# Altium footprint library capacitor.PcbLib: 22 footprints (part 1 of 2)
Each footprint in its own frame and in the unit in brackets; x right, y up, seen from the top. Pads: shape width x height; smd on the part's side, far side on the other; paste and mask are expansions set on the pad; w line width, h text height; cw(c..) or ccw(c..) is an arc to the next point about the centre after c.
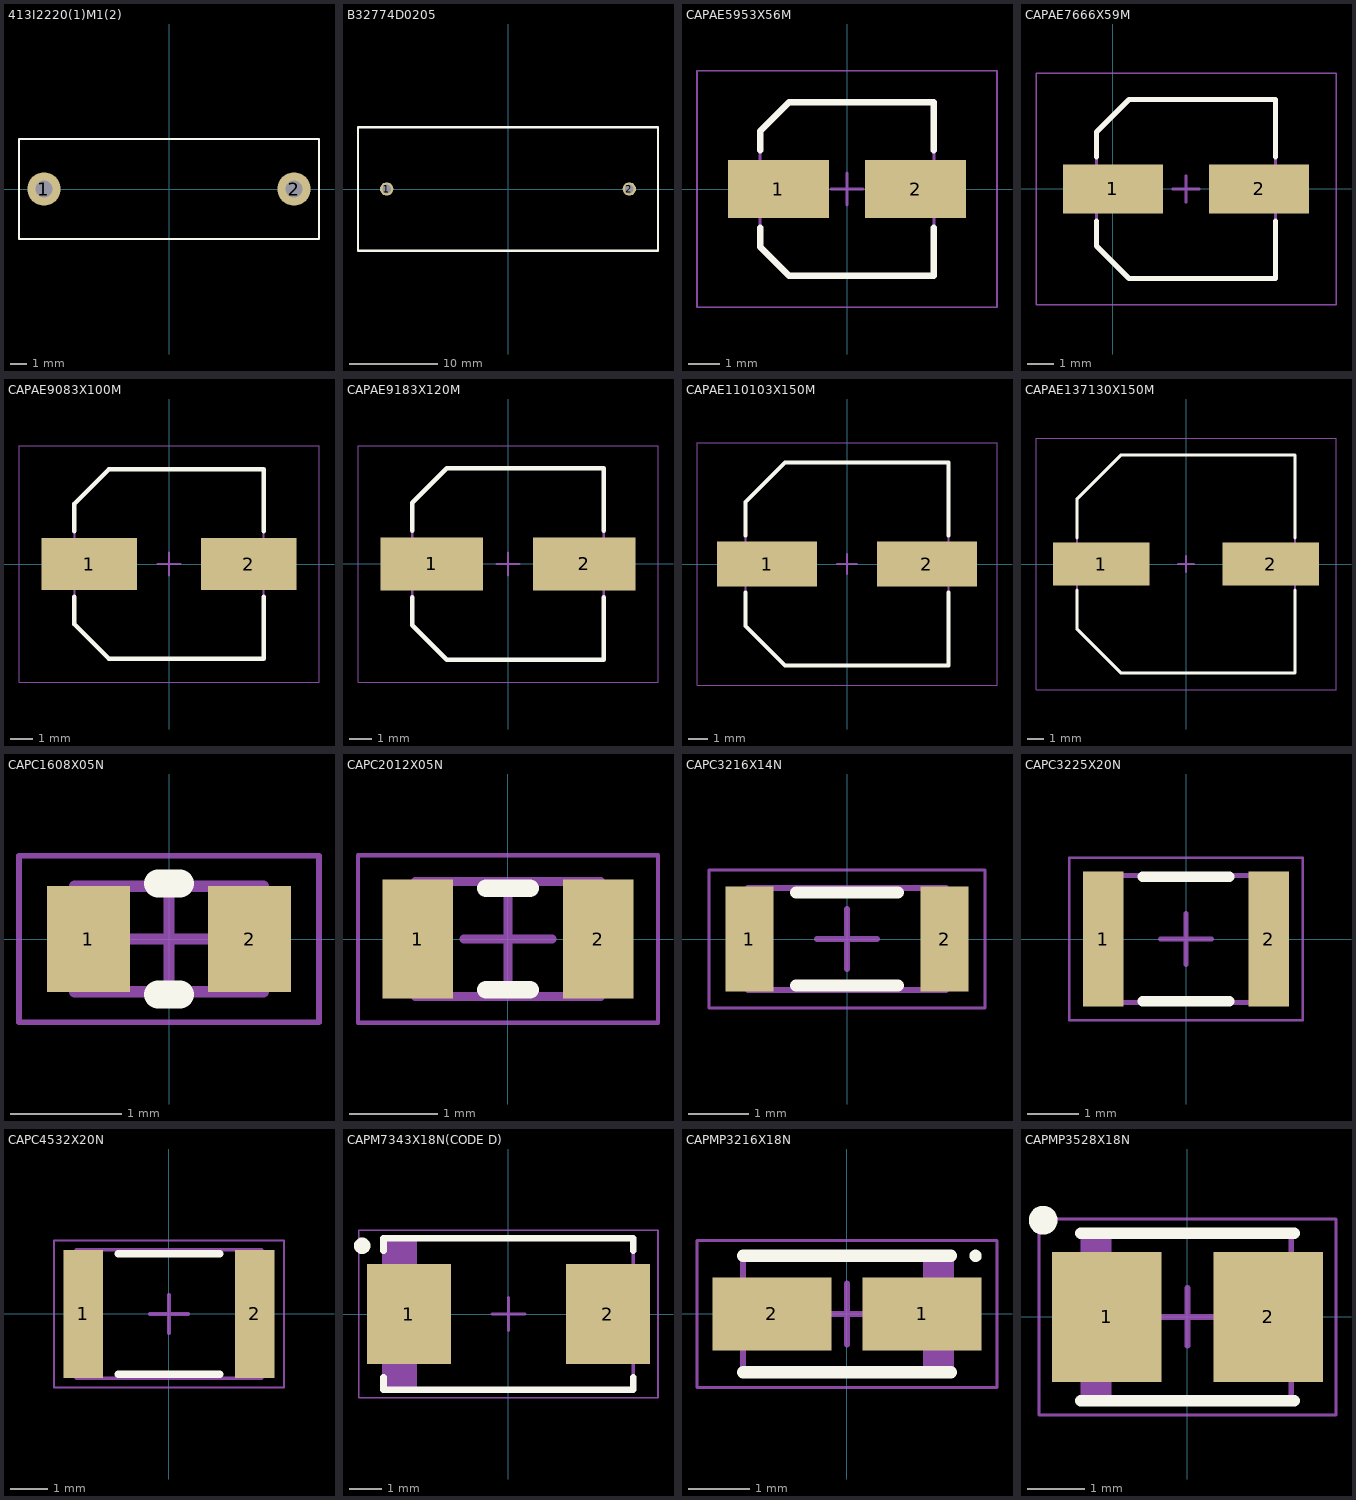
[diagram p0: the footprints below, top view; thin cyan lines are the x and y axes]

## 413I2220(1)M1(2) [mm]
pads (2):
  round 2 hole 1: 1(-7.5,0) 2(7.5,0)
Top Overlay:
  lines w0.1: -9,-3 9,-3 9,3 -9,3 -9,-3
3D body "R413I222000M1M.step": height 12.2, standoff -5.9, extent -9.1,-3.105 9.2,3.1

## B32774D0205 [mm]
height 21.5
pads (2):
  round 1.524 hole 1: 1(-13.75,0) 2(13.75,0)
Top Overlay:
  lines w0.254: -17,-7 -17,7 17,7 17,-7 -17,-7
3D body "B32774D0205.stp": height 21.5, standoff -6.1, extent -15.8,-6.25 15.7,6.25

## CAPAE5953X56M [mm] "Aluminum Electrolytic Capacitor, Body 5.30x5.30x5.60mm, IPC Low Density"
height 5.6
pads (2):
  rect 3.2x1.85 smd: 1(-2.175,0) 2(2.175,0)
Top Overlay:
  lines w0.2: -2.75,-1.225 -2.75,-1.837 -1.837,-2.75 2.75,-2.75 2.75,-1.225 ; -2.75,1.225 -2.75,1.837 -1.837,2.75 2.75,2.75 2.75,1.225
Mechanical 13:
  lines w0.1: -2.75,-1.837 -2.75,1.837 -1.837,2.75 2.75,2.75 2.75,-2.75 -1.837,-2.75 -2.75,-1.837
Mechanical 15:
  lines w0.05: -4.75,-3.75 4.75,-3.75 4.75,3.75 -4.75,3.75 -4.75,-3.75
  lines w0.1: -0.5,0 0.5,0 ; 0,-0.5 0,0.5
3D body "CAPAE5953X56M.step": height 5.6, standoff 0, extent -2.95,-2.75 2.95,2.75

## CAPAE7666X59M [mm] "Aluminum Electrolytic Capacitor, Body 6.60x6.60x5.90mm, IPC Low Density"
height 5.9
pads (2):
  rect 3.8x1.85 smd: 1(0,0) 2(5.55,0)
Top Overlay:
  lines w0.2: -0.625,-1.225 -0.625,-2.163 0.613,-3.4 6.175,-3.4 6.175,-1.225 ; -0.625,1.225 -0.625,2.163 0.613,3.4 6.175,3.4 6.175,1.225
Mechanical 13:
  lines w0.1: -0.625,-2.163 -0.625,2.163 0.613,3.4 6.175,3.4 6.175,-3.4 0.613,-3.4 -0.625,-2.163
Mechanical 15:
  lines w0.05: -2.925,-4.4 8.475,-4.4 8.475,4.4 -2.925,4.4 -2.925,-4.4
  lines w0.1: 2.275,0 3.275,0 ; 2.775,-0.5 2.775,0.5
3D body "CAPAE7666X59M.step": height 5.9, standoff -0.4, extent -1.025,-3.4 6.575,3.4

## CAPAE9083X100M [mm] "Aluminum Electrolytic Capacitor, Body 8.30x8.30x10.00mm, IPC Low Density"
height 10
pads (2):
  rect 4.2x2.3 smd: 1(-3.5,0) 2(3.5,0)
Top Overlay:
  lines w0.2: -4.16,-1.45 -4.16,-2.655 -2.655,-4.16 4.16,-4.16 4.16,-1.45 ; -4.16,1.45 -4.16,2.655 -2.655,4.16 4.16,4.16 4.16,1.45
Mechanical 13:
  lines w0.1: -4.16,-2.655 -2.655,-4.16 4.16,-4.16 4.16,4.16 -2.655,4.16 -4.16,2.655 -4.16,-2.655
Mechanical 15:
  lines w0.05: -6.6,-5.2 -6.6,5.2 6.6,5.2 6.6,-5.2 -6.6,-5.2
  lines w0.1: -0.5,0 0.5,0 ; 0,-0.5 0,0.5
3D body "CAPAE9083X100M.step": height 10, standoff 0, extent -4.5,-4.16 4.5,4.16

## CAPAE9183X120M [mm] "Aluminum Electrolytic Capacitor, Body 8.30x8.30x12.00mm, IPC Low Density"
height 12
pads (2):
  rect 4.55x2.35 smd: 1(-3.375,0) 2(3.375,0)
Top Overlay:
  lines w0.2: -4.25,-1.475 -4.25,-2.713 -2.712,-4.25 4.25,-4.25 4.25,-1.475 ; -4.25,1.475 -4.25,2.712 -2.712,4.25 4.25,4.25 4.25,1.475
Mechanical 13:
  lines w0.1: -4.25,-2.713 -2.712,-4.25 4.25,-4.25 4.25,4.25 -2.712,4.25 -4.25,2.712 -4.25,-2.713
Mechanical 15:
  lines w0.05: -6.65,-5.25 -6.65,5.25 6.65,5.25 6.65,-5.25 -6.65,-5.25
  lines w0.1: -0.5,0 0.5,0 ; 0,-0.5 0,0.5
3D body "CAPAE9183X120M.step": height 12, standoff 0, extent -4.525,-4.25 4.525,4.25

## CAPAE110103X150M [mm] "Aluminum Electrolytic Capacitor, Body 10.30x10.30x15.00mm, IPC Low Density"
height 15
pads (2):
  rect 5.05x2.3 smd: 1(-4.05,0) 2(4.05,0)
Top Overlay:
  lines w0.2: -5.15,-1.45 -5.15,-3.15 -3.15,-5.15 5.15,-5.15 5.15,-1.45 ; -5.15,1.45 -5.15,3.15 -3.15,5.15 5.15,5.15 5.15,1.45
Mechanical 13:
  lines w0.1: -5.15,-3.15 -5.15,3.15 -3.15,5.15 5.15,5.15 5.15,-5.15 -3.15,-5.15 -5.15,-3.15
Mechanical 15:
  lines w0.05: -7.6,-6.15 7.6,-6.15 7.6,6.15 -7.6,6.15 -7.6,-6.15
  lines w0.1: -0.5,0 0.5,0 ; 0,-0.5 0,0.5
3D body "CAPAE110103X150M.step": height 15, standoff 0, extent -5.5,-5.15 5.5,5.15

## CAPAE137130X150M [mm] "Aluminum Electrolytic Capacitor, Body 13.00x13.00x15.00mm, IPC Low Density"
height 15
pads (2):
  rect 5.75x2.55 smd: 1(-5.05,0) 2(5.05,0)
Top Overlay:
  lines w0.2: -6.5,-1.575 -6.5,-3.887 -3.888,-6.5 6.5,-6.5 6.5,-1.575 ; -6.5,1.575 -6.5,3.888 -3.888,6.5 6.5,6.5 6.5,1.575
Mechanical 13:
  lines w0.1: -6.5,-3.887 -6.5,3.888 -3.888,6.5 6.5,6.5 6.5,-6.5 -3.888,-6.5 -6.5,-3.887
Mechanical 15:
  lines w0.05: -8.95,-7.5 8.95,-7.5 8.95,7.5 -8.95,7.5 -8.95,-7.5
  lines w0.1: -0.5,0 0.5,0 ; 0,-0.5 0,0.5
3D body "CAPAE137130X150M.step": height 15, standoff 0, extent -6.85,-6.5 6.85,6.5

## CAPC1608X05N [mm] "Chip Capacitor, 2-Leads, Body 1.60x0.75mm, IPC Medium Density"
height 0.45
pads (2):
  rect 0.75x0.95 smd: 1(-0.725,0) 2(0.725,0)
Top Overlay:
  lines w0.254: -0.1,-0.5 0.1,-0.5 ; -0.1,0.5 0.1,0.5
Mechanical 13:
  lines w0.1: -0.85,-0.475 0.85,-0.475 0.85,0.475 -0.85,0.475 -0.85,-0.475
Mechanical 15:
  lines w0.05: -1.35,-0.75 1.35,-0.75 1.35,0.75 -1.35,0.75 -1.35,-0.75
  lines w0.1: -0.475,0 0.475,0 ; 0,-0.475 0,0.475
3D body "CAPC1608X05N.step": height 0.45, standoff 0, extent -0.85,-0.475 0.85,0.475

## CAPC2012X05N [mm] "Chip Capacitor, 2-Leads, Body 2.00x1.20mm, IPC Medium Density"
height 0.5
pads (2):
  rect 0.8x1.35 smd: 1(-1.025,0) 2(1.025,0)
Top Overlay:
  lines w0.2: -0.25,-0.575 0.25,-0.575 ; -0.25,0.575 0.25,0.575
Mechanical 13:
  lines w0.1: -1.05,-0.65 -1.05,0.65 1.05,0.65 1.05,-0.65 -1.05,-0.65
Mechanical 15:
  lines w0.05: -1.7,-0.95 -1.7,0.95 1.7,0.95 1.7,-0.95 -1.7,-0.95
  lines w0.1: -0.5,0 0.5,0 ; 0,-0.5 0,0.5
3D body "CAPC2012X05N.step": height 0.5, standoff 0, extent -1.05,-0.65 1.05,0.65

## CAPC3216X14N [mm] "Chip Capacitor, 2-Leads, Body 3.20x1.60mm, IPC Medium Density"
height 1.4
pads (2):
  rect 0.8x1.75 smd: 1(-1.625,0) 2(1.625,0)
Top Overlay:
  lines w0.2: -0.85,-0.775 0.85,-0.775 ; -0.85,0.775 0.85,0.775
Mechanical 13:
  lines w0.1: -1.65,-0.85 1.65,-0.85 1.65,0.85 -1.65,0.85 -1.65,-0.85
Mechanical 15:
  lines w0.05: -2.3,-1.15 2.3,-1.15 2.3,1.15 -2.3,1.15 -2.3,-1.15
  lines w0.1: -0.5,0 0.5,0 ; 0,-0.5 0,0.5
3D body "CAPC3216X14N.step": height 1.4, standoff 0, extent -1.65,-0.85 1.65,0.85

## CAPC3225X20N [mm] "Chip Capacitor, 2-Leads, Body 3.20x2.50mm, IPC Medium Density"
height 2
pads (2):
  rect 0.8x2.65 smd: 1(-1.625,0) 2(1.625,0)
Top Overlay:
  lines w0.2: -0.85,-1.225 0.85,-1.225 ; -0.85,1.225 0.85,1.225
Mechanical 13:
  lines w0.1: -1.6,-1.25 1.6,-1.25 1.6,1.25 -1.6,1.25 -1.6,-1.25
Mechanical 15:
  lines w0.05: -2.3,-1.6 2.3,-1.6 2.3,1.6 -2.3,1.6 -2.3,-1.6
  lines w0.1: -0.5,0 0.5,0 ; 0,-0.5 0,0.5
3D body "CAPC3225X20N.step": height 2, standoff 0, extent -1.6,-1.25 1.6,1.25

## CAPC4532X20N [mm] "Chip Capacitor, 2-Leads, Body 4.50x3.20mm, IPC Medium Density"
height 2
pads (2):
  rect 1.05x3.4 smd: 1(-2.275,0) 2(2.275,0)
Top Overlay:
  lines w0.2: -1.35,-1.6 1.35,-1.6 ; -1.35,1.6 1.35,1.6
Mechanical 13:
  lines w0.1: -2.45,-1.7 -2.45,1.7 2.45,1.7 2.45,-1.7 -2.45,-1.7
Mechanical 15:
  lines w0.05: -3.05,-1.95 -3.05,1.95 3.05,1.95 3.05,-1.95 -3.05,-1.95
  lines w0.1: -0.5,0 0.5,0 ; 0,-0.5 0,0.5
3D body "CAPC4532X20N.step": height 2, standoff 0, extent -2.45,-1.7 2.45,1.7

## CAPM7343X18N(CODE D) [mm] "Molded Capacitor, 2-Leads, Body 7.30x4.30mm, IPC Medium Density"
height 1.8
pads (2):
  rect 2.55x3.05 smd: 1(-3.025,0) 2(3.025,0)
Top Overlay:
  circle w0.25: c-4.45,2.075 r0.125
  lines w0.2: -3.8,-1.925 -3.8,-2.3 3.8,-2.3 3.8,-1.925 ; -3.8,1.925 -3.8,2.3 3.8,2.3 3.8,1.925
Mechanical 13:
  rectangle: -3.8,-2.3 -2.778,2.3
  lines w0.1: -3.8,-2.3 3.8,-2.3 3.8,2.3 -3.8,2.3 -3.8,-2.3
Mechanical 15:
  lines w0.05: -4.55,-2.55 4.55,-2.55 4.55,2.55 -4.55,2.55 -4.55,-2.55
  lines w0.1: -0.5,0 0.5,0 ; 0,-0.5 0,0.5
3D body "CaseD.STEP": height 2.9, standoff 0, extent -3.674,-2.18 4.074,2.12

## CAPMP3216X18N [mm] "Molded Capacitor, 2-Leads, Body 3.20x1.60mm, IPC Medium Density"
height 1.8
pads (2):
  rect 1.95x1.2 smd: 1(1.225,0) 2(-1.225,0)
Top Overlay:
  circle w0.1: c2.1,0.95 r0.05
  lines w0.2: -1.7,-0.95 1.7,-0.95 ; -1.7,0.95 1.7,0.95
Mechanical 13:
  rectangle: 1.243,-0.9 1.7,0.9
  lines w0.1: -1.7,-0.9 1.7,-0.9 1.7,0.9 -1.7,0.9 -1.7,-0.9
Mechanical 15:
  lines w0.05: -2.45,-1.2 2.45,-1.2 2.45,1.2 -2.45,1.2 -2.45,-1.2
  lines w0.1: -0.5,0 0.5,0 ; 0,-0.5 0,0.5
3D body "T55_A(3216)-case.stp": height 1.84, standoff 0.04, extent -1.7,-0.9 1.7,0.9

## CAPMP3528X18N [mm] "Molded Capacitor, 2-Leads, Body 3.50x2.80mm, IPC Medium Density"
height 1.8
pads (2):
  rect 1.9x2.25 smd: 1(-1.4,0) 2(1.4,0)
Top Overlay:
  circle w0.25: c-2.5,1.675 r0.125
  lines w0.2: -1.85,-1.45 1.85,-1.45 ; -1.85,1.45 1.85,1.45
Mechanical 13:
  rectangle: -1.8,-1.45 -1.316,1.45
  lines w0.1: -1.8,-1.45 1.8,-1.45 1.8,1.45 -1.8,1.45 -1.8,-1.45
Mechanical 15:
  lines w0.05: -2.575,-1.7 2.575,-1.7 2.575,1.7 -2.575,1.7 -2.575,-1.7
  lines w0.1: -0.5,0 0.5,0 ; 0,-0.5 0,0.5
3D body "293D B-CASE.stp": height 2.13, standoff 0, extent -1.877,-1.533 1.857,1.54